# Altium footprint library ATMEGA16U2_QPTF32_ft.PcbLib: 27 footprints (part 2 of 2)
Each footprint in its own frame and in the unit in brackets; x right, y up, seen from the top. Pads: shape width x height; smd on the part's side, far side on the other; paste and mask are expansions set on the pad; w line width, h text height; cw(c..) or ccw(c..) is an arc to the next point about the centre after c.
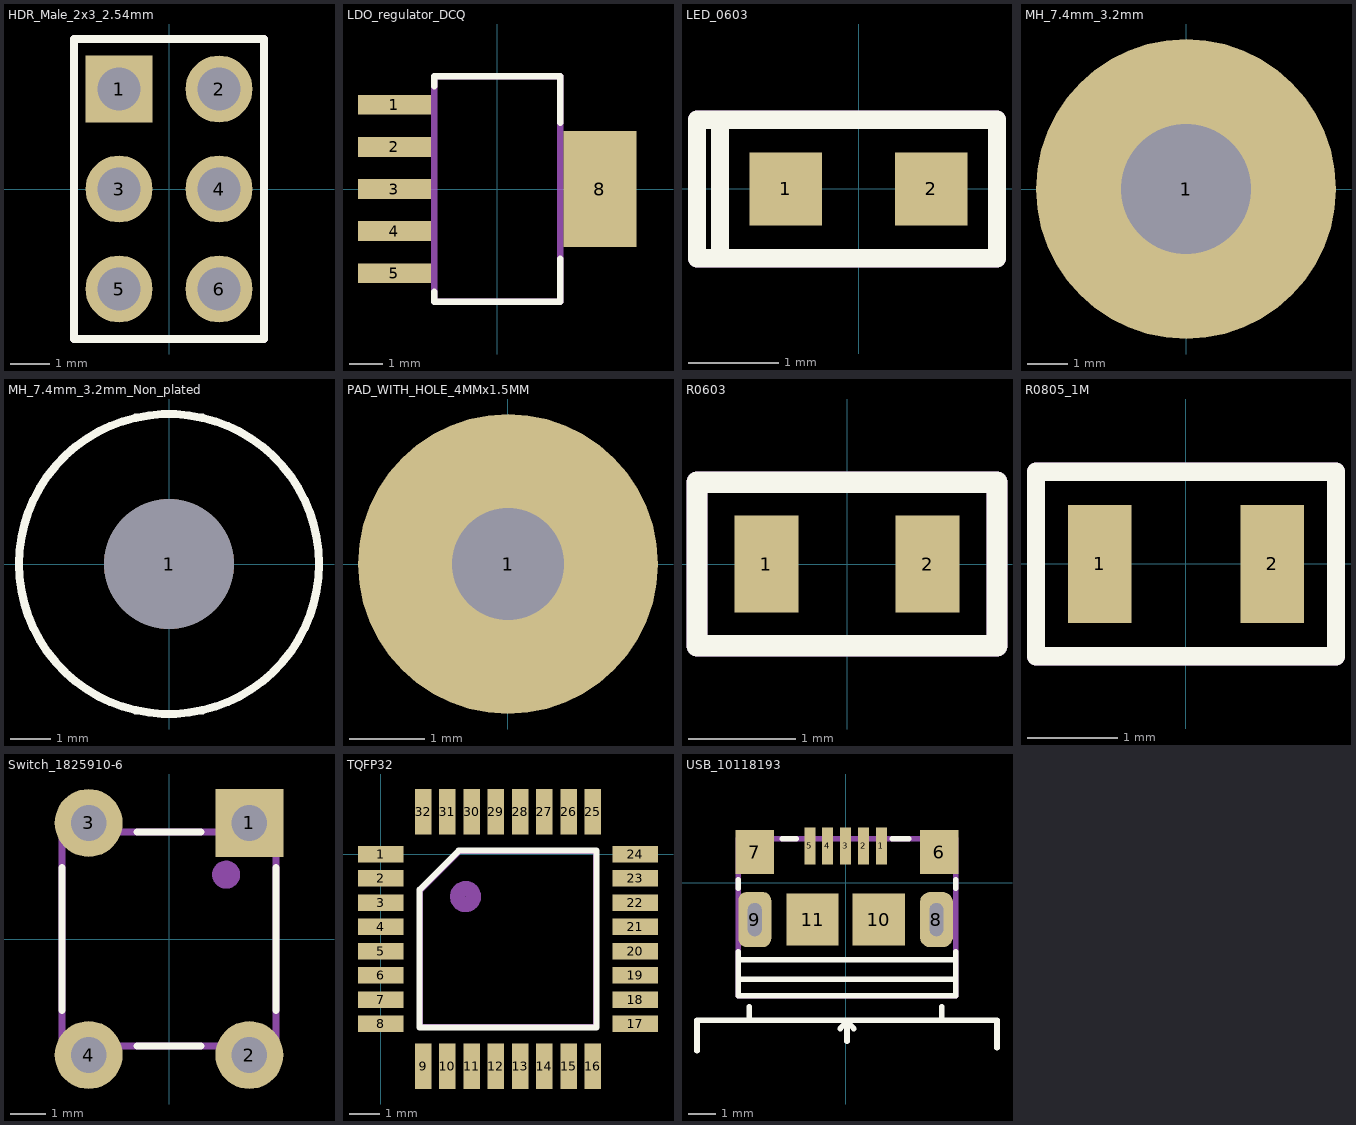
[diagram p1: the footprints below, top view; thin cyan lines are the x and y axes]

## HDR_Male_2x3_2.54mm [mm]
pads (6):
  rect 1.7x1.7 hole 1.1: 1(-1.27,2.54)
  round 1.7 hole 1.1: 2(1.27,2.54) 3(-1.27,0) 4(1.27,0) 5(-1.27,-2.54) 6(1.27,-2.54)
Top Overlay:
  lines w0.2: -0.635,3.81 2.413,3.81 2.413,-3.81 -2.413,-3.81 -2.413,3.81 0.635,3.81
Mechanical 29:
  lines w0.2: -2.413,-3.81 2.413,-3.81 2.413,3.81 -2.413,3.81 -2.413,-3.81
  text ".Designator" at 1.397,-1.778 h0.76
3D body "67997-x06.stp": height 8.19, standoff -3.24, extent -2.413,-3.81 2.413,3.81

## LDO_regulator_DCQ [mm]
pads (6):
  rect 2.2x0.6 smd: 1(-3.1,2.54) 2(-3.1,1.27) 3(-3.1,0) 4(-3.1,-1.27) 5(-3.1,-2.54)
  rect 2.2x3.5 smd: 8(3.1,0)
Top Overlay:
  lines w0.2: -1.9,-3.1 -1.9,-3.4 1.9,-3.4 1.9,-2.1 ; -1.9,3.1 -1.9,3.4 1.9,3.4 1.9,2
Mechanical 29:
  lines w0.2: -1.9,-3.4 -1.9,3.4 1.9,3.4 1.9,-3.4 -1.9,-3.4
  text ".Designator" at -1.5,-0.867 h0.7
3D body "User Library-TPS73701DCQ.step": height 1.8, standoff 0, extent -3.73,-3.275 3.53,3.275

## LED_0603 [mm]
pads (2):
  rect 0.8x0.8 smd: 1(-0.8,0) 2(0.8,0)
Top Overlay:
  lines w0.2: -1.524,-0.762 -1.524,0.762 ; -1.524,-0.762 1.524,-0.762 1.524,0.762 -1.524,0.762 ; -1.524,-0.762 -1.778,-0.762 -1.778,0.762 -1.524,0.762
Mechanical 29:
  lines w0.2: -1.524,-0.762 -1.524,0.762 ; -1.778,-0.762 1.524,-0.762 1.524,0.762 -1.778,0.762 -1.778,-0.762
  text ".Designator" at -0.936,-0.228 h0.6
3D body "User Library-LED SMD 0603 super red.step": height 0.65, standoff 0, extent -0.85,-0.4 0.85,0.4

## MH_7.4mm_3.2mm [mm]
pads (1):
  round 7.4 hole 3.2: 1(0,0)

## MH_7.4mm_3.2mm_Non_plated [mm]
pads (1):
  round 3.2 hole 3.2: 1(0,0)
Top Overlay:
  circle w0.2: c0,0 r3.7

## PAD_WITH_HOLE_4MMx1.5MM [mm]
pads (1):
  round 4 hole 1.5: 1(0,0)

## R0603 [mm]
pads (2):
  rect 0.6x0.9 smd: 1(-0.75,0) 2(0.75,0)
Top Overlay:
  lines w0.2: -1.397,-0.762 1.397,-0.762 1.397,0.762 -1.397,0.762 -1.397,-0.762
Mechanical 29:
  lines w0.2: -1.397,-0.762 -1.397,0.762 1.397,0.762 1.397,-0.762 -1.397,-0.762
  text ".Designator" at -0.712,-0.266 h0.5
3D body "cg0603mlc.stp": height -0.37, standoff -0.82, extent -0.787,-0.394 0.813,0.406

## R0805_1M [mm]
pads (2):
  rect 0.7x1.3 smd: 1(-0.95,0) 2(0.95,0)
Top Overlay:
  lines w0.2: -1.651,-1.016 -1.651,1.016 1.651,1.016 1.651,-1.016 -1.651,-1.016
Mechanical 29:
  lines w0.2: -1.651,-1.016 -1.651,1.016 1.651,1.016 1.651,-1.016 -1.651,-1.016
  text ".Designator" at -1.143,-0.593 h0.51
3D body "User Library-Chip Resistor2.step": height 0.71, standoff 0.01, extent -0.873,-0.6 1.127,0.6

## Switch_1825910-6 [mm]
pads (4):
  rect 1.9x1.9 hole 1: 1(2.25,3.25)
  round 1.9 hole 1: 2(2.25,-3.25) 3(-2.25,3.25) 4(-2.25,-3.25)
Top Overlay:
  lines w0.2: -3,-2 -3,2 ; -0.9,-3 0.9,-3 ; -0.9,3 0.9,3 ; 3,-2 3,2
Mechanical 29:
  circle w0.5: c1.6,1.8 r0.141
  lines w0.2: -3,-3 3,-3 3,3 -3,3 -3,-3
  text ".Designator" at -2.2,-0.867 h1
3D body "User Library-FSM4JLH(1825910-5).step": height 5, standoff -3.51, extent -2.995,-3.899 2.995,3.9

## TQFP32 [mm]
pads (32):
  rect 1.5x0.55 smd mask+0.06: 1(0,0) 2(0,-0.8) 3(0,-1.6) 4(0,-2.4) 5(0,-3.2) 6(0,-4) 7(0,-4.8) 8(0,-5.6) 17(8.4,-5.6) 18(8.4,-4.8) 19(8.4,-4) 20(8.4,-3.2) 21(8.4,-2.4) 22(8.4,-1.6) 23(8.4,-0.8) 24(8.4,0)
  rect 0.55x1.5 smd mask+0.06: 9(1.4,-7) 10(2.2,-7) 11(3,-7) 12(3.8,-7) 13(4.6,-7) 14(5.4,-7) 15(6.2,-7) 16(7,-7) 25(7,1.4) 26(6.2,1.4) 27(5.4,1.4) 28(4.6,1.4) 29(3.8,1.4) 30(3,1.4) 31(2.2,1.4) 32(1.4,1.4)
Top Overlay:
  lines w0.2: 1.285,-5.715 7.115,-5.715 7.115,0.115 2.57,0.115 1.285,-1.17 1.285,-5.715
Mechanical 29:
  circle w0.5: c2.8,-1.4 r0.264
  lines w0.2: 1.3,-5.685 1.3,-1.2 2.6,0.1 7.1,0.1 7.1,-5.7 1.315,-5.7 1.3,-5.685
  text ".Designator" at 3.214,-4.183 h0.5
3D body "User Library-tqfp32.step": height 1.2, standoff 0, extent -0.4,-7.424 8.799,1.775

## USB_10118193 [mm]
pads (11):
  rect 0.4x1.35 smd mask+0.05: 1(1.3,1.338) 2(0.65,1.338) 3(0,1.338) 4(-0.65,1.338) 5(-1.3,1.338)
  rect 1.4x1.6 smd: 6(3.4,1.112) 7(-3.3,1.112)
  rrect60% 1.2x2 hole 0.5 slot 1.2 at 90 deg: 8(3.3,-1.338)
  rrect50% 1.2x2 hole 0.5 slot 1.2 at 90 deg: 9(-3.3,-1.338)
  rect 1.9x1.9 smd: 10(1.2,-1.338) 11(-1.2,-1.338)
Top Overlay:
  lines w0.2: -5.4,-6.1 -5.4,-5 5.5,-5 5.5,-6 ; -3.9,-3.5 4,-3.5 ; -3.9,-2.8 4,-2.8 ; -3.9,-2.5 -3.9,-4.1 4,-4.1 4,-2.5 ; -3.9,-0.2 -3.9,0.1 ; -3.5,-5 -3.5,-4.5 ; -2.3,1.6 -1.8,1.6 ; -0.2,-5.3 0.05,-5.05 ; 0.05,-5.75 0.05,-5 0.05,-5.05 ; 0.3,-5.3 0.05,-5.05 ; 1.7,1.6 2.3,1.6 ; 3.5,-5 3.5,-4.5 ; 4,-0.2 4,0.1
Mechanical 29:
  lines w0.2: -3.9,-4.1 4,-4.1 4,1.6 -3.9,1.6 -3.9,-4.1
  text ".Designator" at 1.9,-1.633 h0.8
3D body "10118193-0001lfc.stp": height 0.33, standoff -3.28, extent -3.903,-4.062 3.953,1.598